# EAGLE library part USB_MICRO_VERTICAL_LPKF (library 08_CONECTOR)
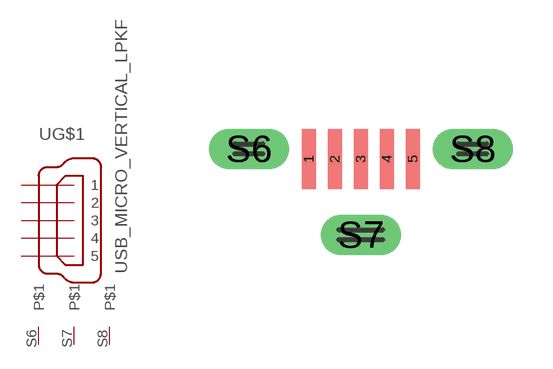
[diagram p14: symbol with the pads of USB_MICRO_VERTICAL_LPKF; footprint USB_MICRO_VERTICAL_LPKF]

Designator prefix -; gates G$1=USB G$2=SHIELD G$3=SHIELD G$4=SHIELD

## USB_MICRO_VERTICAL_LPKF  [USB_MICRO_VERTICAL_LPKF]
1  G$1:1  in
2  G$1:2  in
3  G$1:3  in
4  G$1:4  in
5  G$1:5  in
S6  G$2:P$1
S7  G$3:P$1
S8  G$4:P$1

## Footprint USB_MICRO_VERTICAL_LPKF (pad centres in mm)
smd 0.35 x 1.5: 1 -1.3,0.825; 2 -0.65,0.825; 3 0,0.825; 4 0.65,0.825; 5 1.3,0.825
drill 0.5 pad 1 long: S6 -2.8,1.075; S7 0,-1.075; S8 2.8,1.075